# Altium schematic symbol library BAT2.SchLib: 1 symbol
Pins are listed as number, name and electrical type; pins without a type are passive.

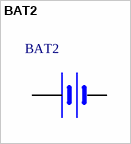
[diagram p0: symbol BAT2]

## BAT2
designator BAT2  (value not drawn)
footprint BAT2
pins: 1 VCC, 2 GND